# Altium footprint library Crystal.PcbLib: 21 footprints (part 2 of 2)
Each footprint in its own frame and in the unit in brackets; x right, y up, seen from the top. Pads: shape width x height; smd on the part's side, far side on the other; paste and mask are expansions set on the pad; w line width, h text height; cw(c..) or ccw(c..) is an arc to the next point about the centre after c.
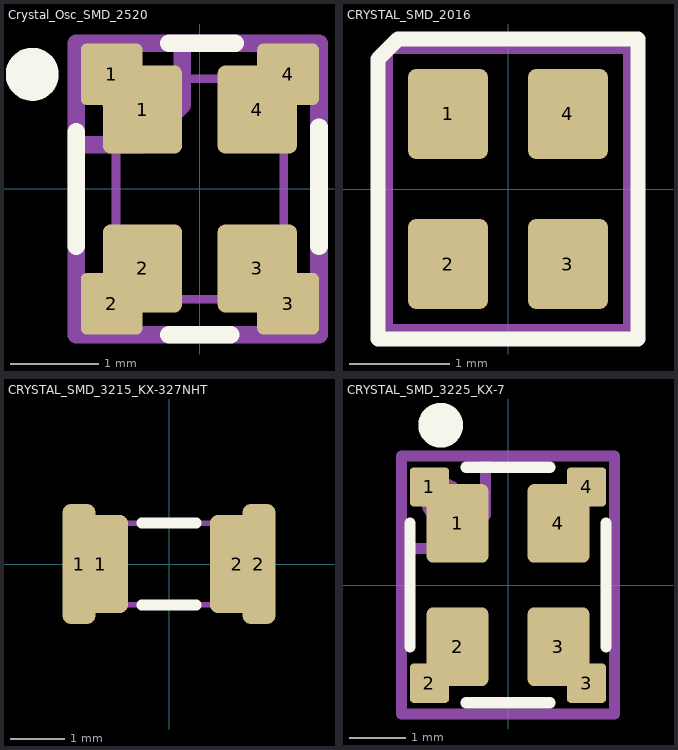
[diagram p1: the footprints below, top view; thin cyan lines are the x and y axes]

## Crystal_Osc_SMD_2520 [mm]
pads (8):
  rrect20% 0.7x0.7 smd: 1(-1,1.3) 2(-1,-1.3) 3(1,-1.3) 4(1,1.3)
  rrect20% 0.9x1 smd: 1(-0.65,0.9) 2(-0.65,-0.9) 3(0.65,-0.9) 4(0.65,0.9)
Top Overlay:
  circle w0.3: c-1.9,1.3 r0.15
  lines w0.2: -1.4,-0.65 -1.4,0.65 ; -0.35,-1.65 0.35,-1.65 ; -0.35,1.65 0.4,1.65 ; 1.35,-0.65 1.35,0.7
Mechanical 1:
  region: 0.3,-0.5 0.3,-1.3 1,-1.3 1,-0.5
  region: -1,-0.5 -1,-1.3 -0.3,-1.3 -0.3,-0.5
  region: 0.3,1.3 0.3,0.5 1,0.5 1,1.3
  region: -1,1.3 -1,0.5 -0.3,0.5 -0.3,1.3
  lines w0.1: -0.95,-0.6 -0.95,0.6 ; -0.55,-1.25 0.55,-1.25 ; -0.55,1.25 0.55,1.25 ; 0.95,-0.55 0.95,0.55
Mechanical 8:
  circle w0.3: c-0.85,1.1 r0.15
  lines w0.2: -1.4,0.5 -0.65,0.5 -0.2,0.95 -0.2,1.65 ; -1.4,-1.65 -1.4,1.65 1.35,1.65 1.35,-1.65 -1.4,-1.65
  text ".Designator" at 0.85,-1.4 h1.5
3D body: height 1.3, standoff 0.01, extent -1.3,-1.65 1.3,1.65

## CRYSTAL_SMD_2016 [mm]
pads (4):
  rrect20% 0.8x0.9 smd: 1(-0.6,0.75) 2(-0.6,-0.75) 3(0.6,-0.75) 4(0.6,0.75)
Top Overlay:
  lines w0.15: -1.3,-1.5 1.3,-1.5 1.3,1.5 -1.1,1.5 -1.3,1.3 -1.3,-1.5
Mechanical 8:
  circle w0.3: c-0.7,0.9 r0.15
  lines w0.1: -1.2,-1.4 -1.2,1.4 1.2,1.4 1.2,-1.4 -1.2,-1.4
  text ".Designator" at 0.1,1.15 h1.4
3D body: height 0.55, standoff 0.01, extent -0.8,-1 0.8,1

## CRYSTAL_SMD_3215_KX-327NHT [mm]
pads (4):
  rrect50% 0.6x2.2 smd: 1(-1.65,0) 2(1.65,0)
  rrect30% 1x1.8 smd: 1(-1.25,0) 2(1.25,0)
Top Overlay:
  lines w0.2: -0.5,-0.75 0.5,-0.75 ; -0.5,0.75 0.5,0.75
Mechanical 8:
  lines w0.1: -1.6,-0.75 -1.6,0.75 1.6,0.75 1.6,-0.75 -1.6,-0.75
  text ".Designator" at -1.3,-0.45 h1.7
3D body: height 0.8, standoff 0.01, extent -1.6,-0.75 1.6,0.75

## CRYSTAL_SMD_3225_KX-7 [mm]
pads (8):
  rrect20% 0.7x0.7 smd: 1(-1.4,1.75) 2(-1.4,-1.75) 3(1.4,-1.75) 4(1.4,1.75)
  rrect20% 1.1x1.4 smd: 1(-0.9,1.1) 2(-0.9,-1.1) 3(0.9,-1.1) 4(0.9,1.1)
Top Overlay:
  circle w0.4: c-1.2,2.85 r0.2
  lines w0.2: -1.75,-1.1 -1.75,1.1 ; -0.75,-2.1 0.75,-2.1 ; -0.75,2.1 0.75,2.1 ; 1.75,-1.1 1.75,1.1
Mechanical 8:
  circle w0.4: c-1.15,1.5 r0.2
  lines w0.2: -1.9,2.05 -1.9,0.65 -1,0.65 -0.4,1.25 -0.4,2.3 ; -1.9,-2.3 -1.9,2.3 1.9,2.3 1.9,-2.3 -1.9,-2.3
  text ".Designator" at 0.1,1.35 h2.5
3D body: height 1.3, standoff 0.01, extent -1.3,-1.65 1.3,1.65

## PCBComponent_1 [mm]